# Altium schematic symbol library VARISTOR.SchLib: 1 symbol
Pins are listed as number, name and electrical type; pins without a type are passive.

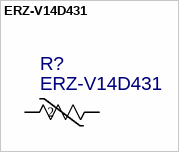
[diagram p0: symbol ERZ-V14D431]

## ERZ-V14D431
designator R?
C: Copyright (C) 2015 Accelerated Designs. All rights reserved; Vendor: Panasonic; Built_By: EMA_UL_Team; Manufacturer_Part_Number: ERZ-V14D431; Value: ERZ-V14D431
footprint RES_ERZV14_155X6
pins: 1, 2
1 alternate drawing of the same symbol